# Altium schematic symbol library DO - Diodes - Bridge Rectifiers.SchLib: 1 symbol
Pins are listed as number, name and electrical type; pins without a type are passive.

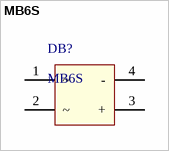
[diagram p0: symbol MB6S]

## MB6S
designator DB?
IC RECT BRIDGE 0.5A 600V 4SOIC; Manufacturer: Fairchild Semiconductor; Diode Type: Single Phase; Current - DC Forward (If) (Max): 500mA; Max Surge Current: 35 A; Ir - Reverse Current: 5 uA; Pd - Power Dissipation: 1.4 W; Vf - Forward Voltage: 1 V; Vr - Reverse Voltage: 420 V; Supplier 1: Digi-Key; Manufacturer Part Number: MB6S; RoHS: RoHS Compliant; Category: Discrete Semiconductor Products; Stock 1: 21407; Pricing 1: 1=0.38, 10=0.305, 100=0.2079, 500=0.15562, 1000=0.11655 (USD); Packaging: Cut Tape (CT); Part Status: Active; Voltage - Peak Reverse (Max): 600V; Mounting Type: Surface Mount; Package / Case: TO-269AA, 4-BESOP; Operating Temperature: -55°C ~ 150°C (TJ); Supplier Device Package: 4-SOIC; ComponentLink1URL: https://www.fairchildsemi.com/datasheets/MB/MB1S.pdf; ComponentLink1Description: https://www.fairchildsemi.com/datasheets/MB/MB1S.pdf; Supplier 2: Mouser; Stock 2: 17482; Pricing 2: 1=0.360, 10=0.279, 100=0.151, 1000=0.113, 3000=0.098, 9000=0.091, 24000=0.084, 45000=0.080, 99000=0.076 (USD); Height: 2.7 mm; Length: 4.9 mm; Product: Bridge Rectifiers; Series: MB6S; Termination Style: SMD/SMT; Type: Single Phase Bridge; Width: 4.2 mm; Brand: Fairchild Semiconductor; Mounting Style: PCB Mount; If - Forward Current: 0.5 A; Maximum Operating Temperature: + 150 C; Minimum Operating Temperature: - 55 C; Peak Reverse Voltage: 600 V; Standard Pack Qty: 3000; RoHS - Mouser: E; Minimum Order Quantity: 1; Reeling: True; ComponentLink2URL: http://www.mouser.com/ds/2/149/MB6S-1011197.pdf; ComponentLink2Description: http://www.mouser.com/ds/2/149/MB6S-1011197.pdf; Supplier Part Number 1: MB6SCT-ND; Supplier Part Number 2: 512-MB6S
footprint SOIC-4 DB (SOIC-4 Diodes Bridge)
pins: 1 ~, 2 ~, 3 +, 4 -